# Altium schematic symbol library SamacSys.SchLib: 234 symbols (part 3 of 3)
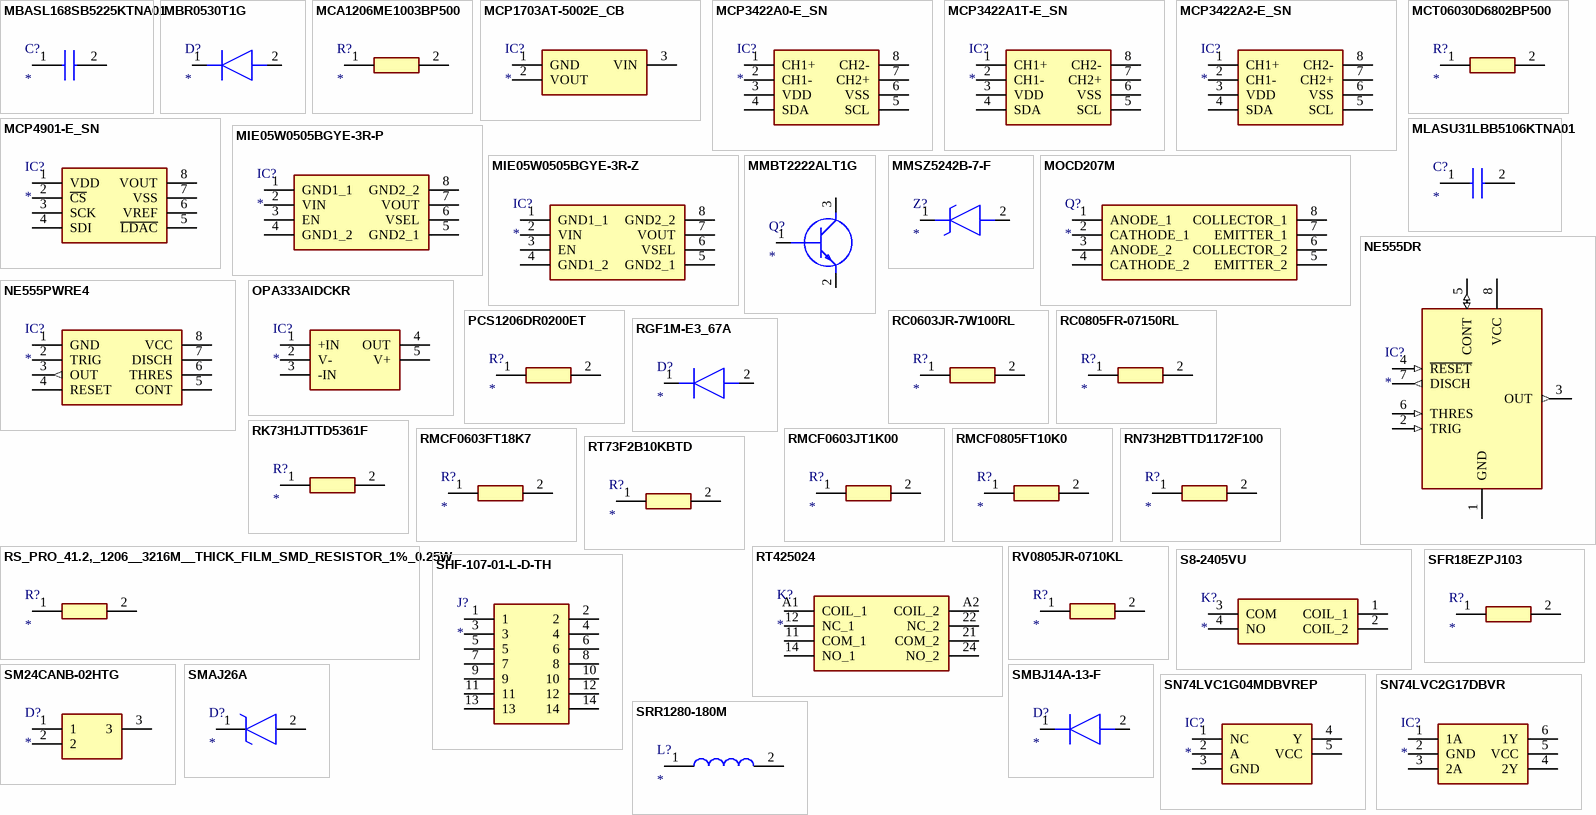
[diagram p7: symbols MBASL168SB5225KTNA01 to SRR1280-180M]

## NE555PWRE4
designator IC?
Integrated Circuit; Manufacturer_Name: Texas Instruments; Manufacturer_Part_Number: NE555PWRE4; Datasheet Link: http://www.ti.com/lit/ds/symlink/ne555.pdf; Height: 1.2mm; Mouser Part Number: 595-NE555PWRE4; Mouser Price/Stock: https://www.mouser.co.uk/ProductDetail/Texas-Instruments/NE555PWRE4?qs=rLYyFdxB%2Fmr6qUodVTnTjw%3D%3D; Arrow Part Number: NE555PWRE4; Arrow Price/Stock: https://www.arrow.com/en/products/ne555pwre4/texas-instruments
footprint SOP65P640X120-8N
pins: 1 GND (power), 2 TRIG, 3 OUT (out), 4 RESET, 5 CONT, 6 THRES, 7 DISCH, 8 VCC (power)

## OPA333AIDCKR
designator IC?
Integrated Circuit; Manufacturer_Name: Texas Instruments; Manufacturer_Part_Number: OPA333AIDCKR; Datasheet Link: http://www.ti.com/lit/ds/symlink/opa333.pdf; Height: 1.1mm; Mouser Part Number: 595-OPA333AIDCKR; Mouser Price/Stock: https://www.mouser.co.uk/ProductDetail/Texas-Instruments/OPA333AIDCKR?qs=7nS3%252BbEUL6sD%252Blxh0%252BShWA%3D%3D; Arrow Part Number: OPA333AIDCKR; Arrow Price/Stock: https://www.arrow.com/en/products/opa333aidckr/texas-instruments?region=nac
footprint SOT65P210X110-5N
pins: 1 +IN, 2 V-, 3 -IN, 4 OUT, 5 V+

## PCS1206DR0200ET
designator R?
Resistor; Manufacturer_Name: Ohmite; Manufacturer_Part_Number: PCS1206DR0200ET; Datasheet Link: https://componentsearchengine.com/Datasheets/1/PCS1206DR0200ET.pdf; Height: 0.684mm; Mouser Part Number: 588-PCS1206DR0200ET; Mouser Price/Stock: https://www.mouser.co.uk/ProductDetail/Ohmite/PCS1206DR0200ET?qs=Zz7%252BYVVL6bHe1REzh6xp%2Fw%3D%3D
footprint RESC3216X68N
pins: 1, 2

## RC0603JR-7W100RL
designator R?
Resistor; Manufacturer_Name: Yageo Group; Manufacturer_Part_Number: RC0603JR-7W100RL; Datasheet Link: http://www.yageo.com/documents/recent/PYu-RC0603_51_RoHS_L_v5.pdf; Height: 0.55mm; Mouser Part Number: 603-RC0603JR-7W100RL; Mouser Price/Stock: https://www.mouser.co.uk/ProductDetail/YAGEO/RC0603JR-7W100RL?qs=tggtontpCXNb6PZs9ghEpg%3D%3D; Arrow Part Number: RC0603JR-7W100RL; Arrow Price/Stock: https://www.arrow.com/en/products/rc0603jr-7w100rl/yageo?region=nac
footprint RESC1608X55N
pins: 1, 2

## RC0805FR-07150RL
designator R?
Resistor; Manufacturer_Name: YAGEO; Manufacturer_Part_Number: RC0805FR-07150RL; Datasheet Link: http://www.yageo.com/documents/recent/PYu-RC_Group_51_RoHS_L_10.pdf; Height: 0.6mm; Mouser Part Number: 603-RC0805FR-07150RL; Mouser Price/Stock: https://www.mouser.co.uk/ProductDetail/Yageo/RC0805FR-07150RL?qs=8Y8p%252BasKcI6SRkoIp3y4Wg%3D%3D; Arrow Part Number: RC0805FR-07150RL; Arrow Price/Stock: https://www.arrow.com/en/products/rc0805fr-07150rl/yageo
footprint RESC2012X60N
pins: 1, 2

## RGF1M-E3_67A
designator D?
Diode; Manufacturer_Name: Vishay; Manufacturer_Part_Number: RGF1M-E3/67A; Datasheet Link: https://www.vishay.com/docs/88697/rgf1.pdf; Height: 3mm; Mouser Part Number: 625-RGF1M-E3; Mouser Price/Stock: https://www.mouser.co.uk/ProductDetail/Vishay-General-Semiconductor/RGF1M-E3-67A?qs=4xyK702%2F%252BQ1dl%252BTCdyIThg%3D%3D; Arrow Part Number: RGF1M-E3/67A; Arrow Price/Stock: https://www.arrow.com/en/products/rgf1m-e367a/vishay?region=nac
footprint DIOM5426X300N
pins: 1 K, 2 A

## RK73H1JTTD5361F
designator R?
Resistor; Manufacturer_Name: KOA Speer; Manufacturer_Part_Number: RK73H1JTTD5361F; Datasheet Link: http://www.koaspeer.com/catimages/Products/RK73-RT/RK73-RT.pdf; Height: 0.55mm; Mouser Part Number: 660-RK73H1JTTD5361F; Mouser Price/Stock: http://www.mouser.com/Search/ProductDetail.aspx?qs=VsVuNjgfZhozLTQBmeIWog%3d%3d
footprint RESC1608X55N
pins: 1, 2

## RMCF0603FT18K7
designator R?
Resistor; Manufacturer_Name: Stackpole Electronics; Manufacturer_Part_Number: RMCF0603FT18K7; Datasheet Link: https://www.seielect.com/Catalog/SEI-RMCF_RMCP.pdf; Height: 0.55mm
footprint RESC1608X55N
pins: 1, 2

## RMCF0603JT1K00
designator R?
Resistor; Manufacturer_Name: Stackpole Electronics; Manufacturer_Part_Number: RMCF0603JT1K00; Datasheet Link: https://www.seielect.com/Catalog/SEI-RMCF_RMCP.pdf; Height: 0.55mm; Mouser Part Number: 708-RMCF0603JT1K00; Mouser Price/Stock: https://www.mouser.co.uk/ProductDetail/SEI-Stackpole/RMCF0603JT1K00?qs=FESYatJ8odK3lrUeqnFxyg%3D%3D; Arrow Part Number: RMCF0603JT1K00; Arrow Price/Stock: https://www.arrow.com/en/products/rmcf0603jt1k00/stackpole-electronics?region=nac
footprint RESC1608X55N
pins: 1, 2

## RMCF0805FT10K0
designator R?
Resistor; Manufacturer_Name: Stackpole Electronics; Manufacturer_Part_Number: RMCF0805FT10K0; Datasheet Link: https://www.seielect.com/catalog/sei-rmcf_rmcp.pdf; Height: 0.65mm; Mouser Part Number: 708-RMCF0805FT10K0; Mouser Price/Stock: https://www.mouser.co.uk/ProductDetail/SEI-Stackpole/RMCF0805FT10K0?qs=IreZ0J%252BReG3LOHc8zdDe6Q%3D%3D; Arrow Part Number: RMCF0805FT10K0; Arrow Price/Stock: https://www.arrow.com/en/products/rmcf0805ft10k0/stackpole-electronics?region=nac
footprint RESC2012X65N
pins: 1, 2

## RN73H2BTTD1172F100
designator R?
Resistor; Manufacturer_Name: KOA Speer; Manufacturer_Part_Number: RN73H2BTTD1172F100; Datasheet Link: https://www.koaspeer.com/pdfs/RN73H.pdf; Height: 0.7mm; Mouser Part Number: 660-RN73H2BT1172F100; Mouser Price/Stock: https://www.mouser.co.uk/ProductDetail/KOA-Speer/RN73H2BTTD1172F100?qs=egkD4cx1ihS0KaGLrT%2FVSQ%3D%3D
footprint RESC3216X70N
pins: 1, 2

## RS_PRO_41.2,_1206__3216M__THICK_FILM_SMD_RESISTOR_1%_0.25W
designator R?
Resistor; Manufacturer_Name: RS Pro; Manufacturer_Part_Number: RS PRO 41.2O; Datasheet Link: https://docs.rs-online.com/28ed/0900766b8157b2d3.pdf; Height: 0.65mm
footprint RESC3116X65N
pins: 1, 2

## RT73F2B10KBTD
designator R?
Resistor; Manufacturer_Name: TE Connectivity; Manufacturer_Part_Number: RT73F2B10KBTD; Datasheet Link: https://www.te.com/commerce/DocumentDelivery/DDEController?Action=showdoc&DocId=Data+Sheet%7F1773450%7FA1%7Fpdf%7FEnglish%7FENG_DS_1773450_A1.pdf%7FCAT-F52-R; Height: 0.7mm
footprint RESC3216X70N
pins: 1, 2

## RT425024
designator K?
Relay or Contactor; Manufacturer_Name: TE Connectivity; Manufacturer_Part_Number: RT425024; Datasheet Link: https://www.te.com/commerce/DocumentDelivery/DDEController?Action=showdoc&DocId=Data+Sheet%7FRT2%7F3%7Fpdf%7FEnglish%7FENG_DS_RT2_3.pdf%7F8-1393243-5; Height: 15.7mm; Mouser Part Number: 655-RT425024; Mouser Price/Stock: https://www.mouser.co.uk/ProductDetail/TE-Connectivity-PB/RT425024?qs=d4LE%252Bqfehai4i5dviTm5mw%3D%3D; Arrow Part Number: RT425024; Arrow Price/Stock: https://www.arrow.com/en/products/rt425024/te-connectivity?region=nac
footprint RT425024
pins: 11 COM_1, 12 NC_1, 14 NO_1, 21 COM_2, 22 NC_2, 24 NO_2, A1 COIL_1, A2 COIL_2

## RV0805JR-0710KL
designator R?
Resistor; Manufacturer_Name: Yageo Group; Manufacturer_Part_Number: RV0805JR-0710KL; Datasheet Link: https://www.mouser.in/new/yageo/yageo-rv-resistors/; Height: 0.6mm
footprint RESC2012X60N
pins: 1, 2

## S8-2405VU
designator K?
Relay or Contactor; Manufacturer_Name: Sensata; Manufacturer_Part_Number: S8-2405VU; Datasheet Link: https://componentsearchengine.com/Datasheets/2/S8-2405VU.pdf; Height: 12mm; Mouser Part Number: 285-S8-2405VU; Mouser Price/Stock: https://www.mouser.co.uk/ProductDetail/Cynergy3/S8-2405VU?qs=OlC7AqGiEDkSZm1DfbwcWw%3D%3D
footprint S82405VU
pins: 1 COIL_1, 2 COIL_2, 3 COM, 4 NO

## SFR18EZPJ103
designator R?
Resistor; Manufacturer_Name: ROHM Semiconductor; Manufacturer_Part_Number: SFR18EZPJ103; Datasheet Link: https://fscdn.rohm.com/en/products/databook/datasheet/passive/resistor/chip_resistor/sfr-e.pdf; Height: 0.65mm
footprint RESC3216X65N
pins: 1, 2

## SHF-107-01-L-D-TH
designator J?
Connector; Manufacturer_Name: SAMTEC; Manufacturer_Part_Number: SHF-107-01-L-D-TH; Datasheet Link: https://componentsearchengine.com/Datasheets/1/SHF-107-01-L-D-TH.pdf; Height: 5.33mm; Mouser Part Number: 200-SHF10701LDTH; Mouser Price/Stock: https://www.mouser.co.uk/ProductDetail/Samtec/SHF-107-01-L-D-TH?qs=%252BZP6%2F%252BtExtDrbekpOnhfag%3D%3D; Arrow Part Number: SHF-107-01-L-D-TH; Arrow Price/Stock: https://www.arrow.com/en/products/shf-107-01-l-d-th/samtec?utm_currency=USD&region=nac
footprint SHF10701LDTH
pins: 1, 2, 3, 4, 5, 6, 7, 8, 9, 10, 11, 12, 13, 14

## SM24CANB-02HTG
designator D?
TVS Diode (Bi-directional); Manufacturer_Name: LITTELFUSE; Manufacturer_Part_Number: SM24CANB-02HTG; Datasheet Link: https://www.littelfuse.com/products/overvoltage-protection/tvs-diode-arrays/general-purpose/sm24canb/sm24canb-02htg; Height: 1.12mm; Mouser Part Number: 576-SM24CANB-02HTG; Mouser Price/Stock: https://www.mouser.co.uk/ProductDetail/Littelfuse/SM24CANB-02HTG?qs=bWsWnctWn1wbKmCYlcUmHw%3D%3D; Arrow Part Number: SM24CANB-02HTG; Arrow Price/Stock: https://www.arrow.com/en/products/sm24canb-02htg/littelfuse?utm_currency=USD&region=nac
footprint SM24CANB02HTG
pins: 1, 2, 3

## SMAJ26A
designator D?
TVS Diode (Uni-directional); Manufacturer_Name: LITTELFUSE; Manufacturer_Part_Number: SMAJ26A; Datasheet Link: https://www.littelfuse.com/~/media/electronics/datasheets/tvs_diodes/littelfuse_tvs_diode_smaj_datasheet.pdf.pdf; Height: 2.29mm; Mouser Part Number: 576-SMAJ26A; Mouser Price/Stock: https://www.mouser.co.uk/ProductDetail/Littelfuse/SMAJ26A?qs=HR2RnyOI4E5UFOxZR4oQ3w%3D%3D; Arrow Part Number: SMAJ26A; Arrow Price/Stock: https://www.arrow.com/en/products/smaj26a/littelfuse?region=nac
footprint DIOM5026X229N
pins: 1 K, 2 A

## SMBJ14A-13-F
designator D?
Diode; Manufacturer_Name: Diodes Incorporated; Manufacturer_Part_Number: SMBJ14A-13-F; Datasheet Link: https://componentsearchengine.com/Datasheets/1/SMBJ14A-13-F.pdf; Height: 2.5mm; Mouser Part Number: 621-SMBJ14A-13-F; Mouser Price/Stock: https://www.mouser.co.uk/ProductDetail/Diodes-Incorporated/SMBJ14A-13-F?qs=gaDBXWSqsDA8qom4X6x%252B1g%3D%3D; Arrow Part Number: SMBJ14A-13-F; Arrow Price/Stock: https://www.arrow.com/en/products/smbj14a-13-f/diodes-incorporated?region=nac
footprint DIOM5336X250N
pins: 1 K, 2 A

## SN74LVC1G04MDBVREP
designator IC?
Integrated Circuit; Manufacturer_Name: Texas Instruments; Manufacturer_Part_Number: SN74LVC1G04MDBVREP; Datasheet Link: http://www.ti.com/lit/gpn/sn74lvc1g04-ep; Height: 1.45mm; Mouser Part Number: 595-SN74LVC04MDBVREP; Mouser Price/Stock: https://www.mouser.co.uk/ProductDetail/Texas-Instruments/SN74LVC1G04MDBVREP?qs=l4wu3mKjyflWQOlEvZuvmw%3D%3D; Arrow Part Number: SN74LVC1G04MDBVREP; Arrow Price/Stock: https://www.arrow.com/en/products/sn74lvc1g04mdbvrep/texas-instruments?utm_currency=USD&region=nac
footprint SOT95P280X145-5N
pins: 1 NC, 2 A, 3 GND, 4 Y, 5 VCC

## SN74LVC2G17DBVR
designator IC?
Integrated Circuit; Manufacturer_Name: Texas Instruments; Manufacturer_Part_Number: SN74LVC2G17DBVR; Datasheet Link: http://www.ti.com/lit/gpn/sn74lvc2g17; Height: 1.45mm; Mouser Part Number: 595-SN74LVC2G17DBVR; Mouser Price/Stock: https://www.mouser.co.uk/ProductDetail/Texas-Instruments/SN74LVC2G17DBVR?qs=X1HXWTtiZ0RnstCufGEJxQ%3D%3D; Arrow Part Number: SN74LVC2G17DBVR; Arrow Price/Stock: https://www.arrow.com/en/products/sn74lvc2g17dbvr/texas-instruments?utm_currency=USD&region=nac
footprint SOT95P280X145-6N
pins: 1 1A, 2 GND, 3 2A, 4 2Y, 5 VCC, 6 1Y

## SRR1280-180M
designator L?
Inductor; Manufacturer_Name: Bourns; Manufacturer_Part_Number: SRR1280-180M; Datasheet Link: https://www.bourns.com/docs/Product-Datasheets/SRR1280.pdf; Height: 8mm; Mouser Part Number: 652-SRR1280-180M; Mouser Price/Stock: https://www.mouser.co.uk/ProductDetail/Bourns/SRR1280-180M?qs=brMhP%2FMjUfeRcSm%2FRxSrFQ%3D%3D; Arrow Part Number: SRR1280-180M; Arrow Price/Stock: https://www.arrow.com/en/products/srr1280-180m/bourns?region=nac
footprint INDPM125125X800N
pins: 1, 2

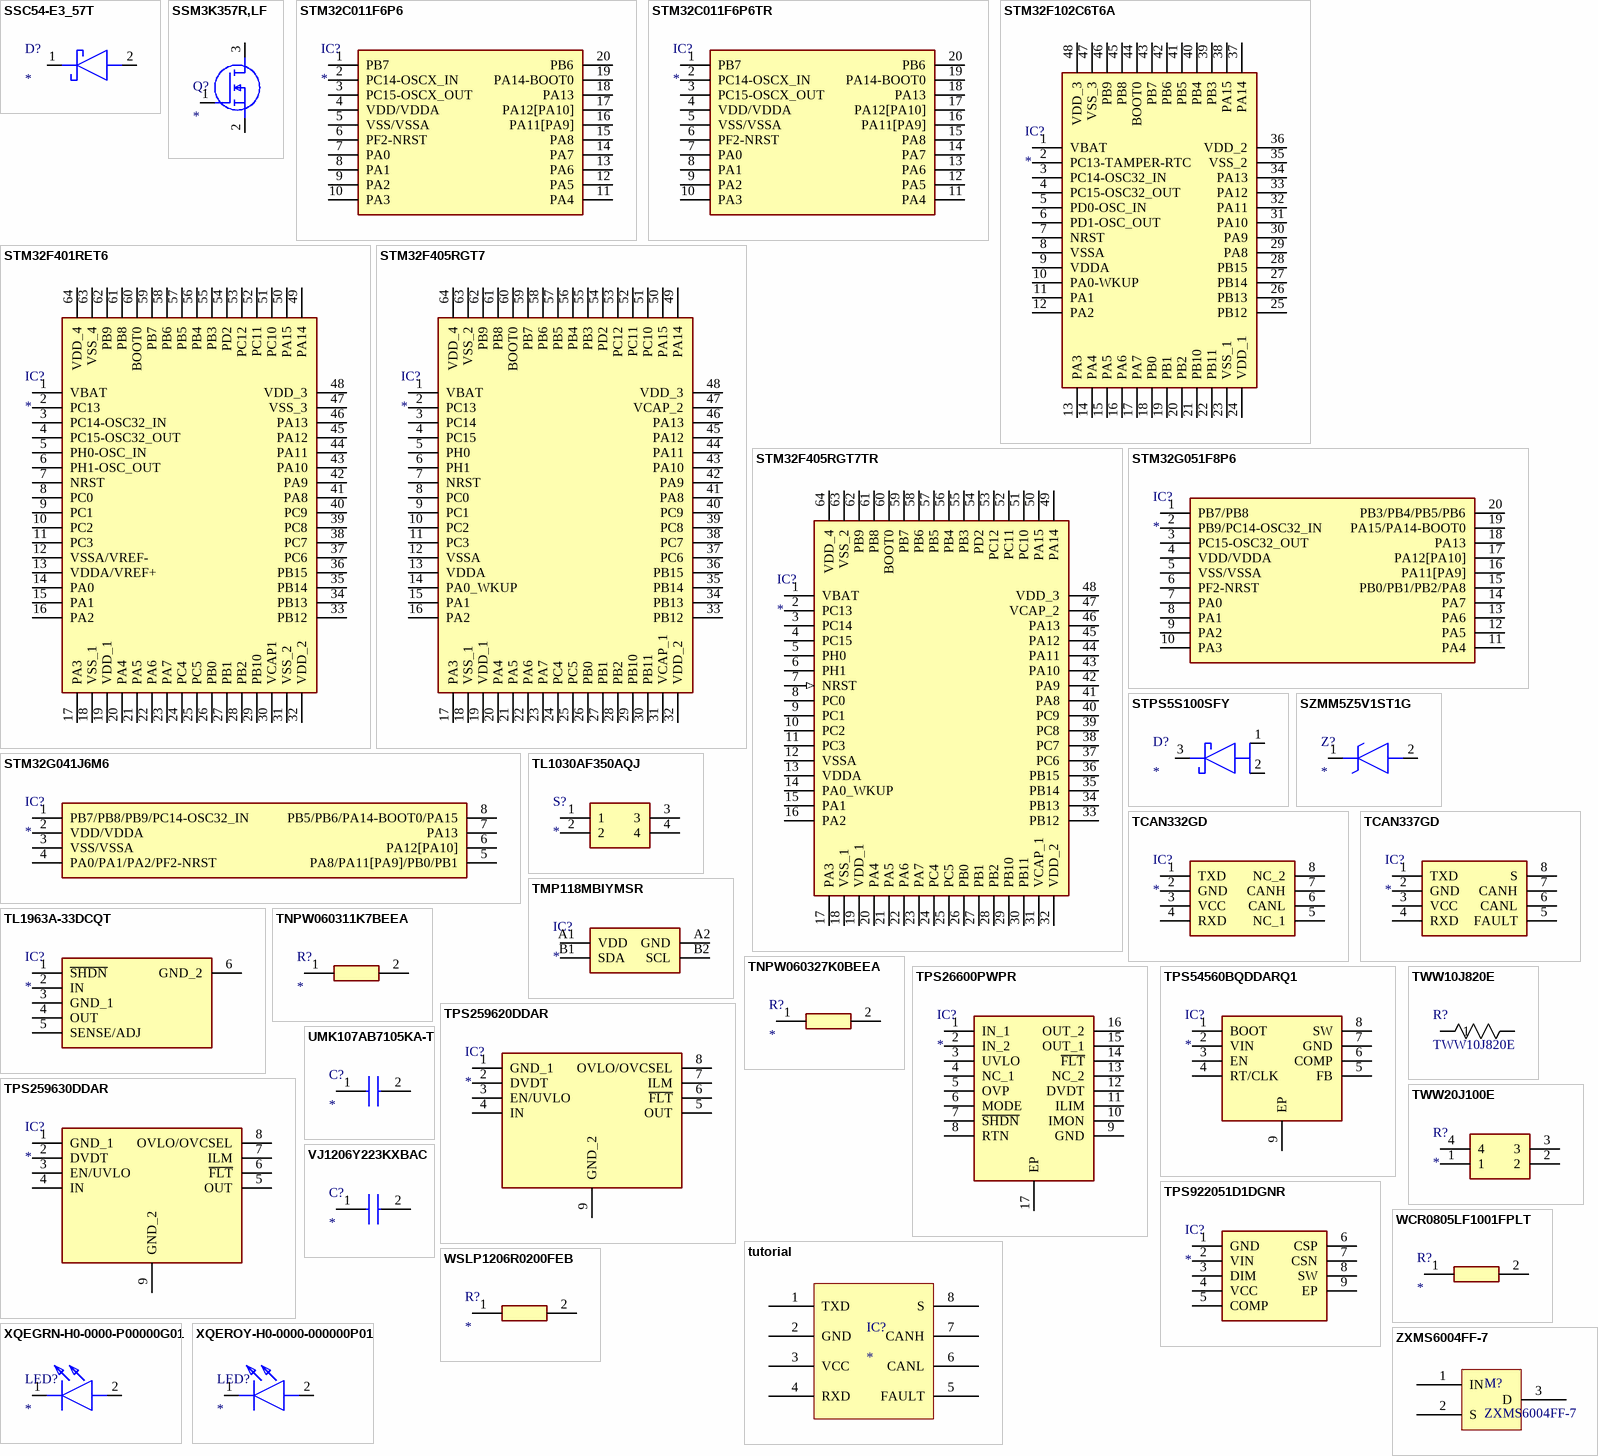
[diagram p5: symbols SSC54-E3_57T to ZXMS6004FF-7]

## SSC54-E3_57T
designator D?
Schottky Diode; Manufacturer_Name: Vishay; Manufacturer_Part_Number: SSC54-E3/57T; Datasheet Link: https://www.vishay.com/docs/88885/ssc53l.pdf; Height: 2.62mm; Mouser Part Number: 625-SSC54-E3; Mouser Price/Stock: https://www.mouser.co.uk/ProductDetail/Vishay-General-Semiconductor/SSC54-E3-57T?qs=x2jpVgRnAtMhElpsncdW2g%3D%3D; Arrow Part Number: SSC54-E3/57T; Arrow Price/Stock: https://www.arrow.com/en/products/ssc54-e357t/vishay?utm_currency=USD&region=nac
footprint DIOM7959X262N
pins: 1 K, 2 A

## SSM3K357R,LF
designator Q?
MOSFET (N-Channel); Manufacturer_Name: Toshiba; Manufacturer_Part_Number: SSM3K357R,LF; Datasheet Link: https://toshiba.semicon-storage.com/info/docget.jsp?did=59207&prodName=SSM3K357R; Height: 0.88mm; Mouser Part Number: 757-SSM3K357RLF; Mouser Price/Stock: https://www.mouser.co.uk/ProductDetail/Toshiba/SSM3K357RLF?qs=F5EMLAvA7ICLn4Y138U4bA%3D%3D; Arrow Part Number: SSM3K357R,LF; Arrow Price/Stock: https://www.arrow.com/en/products/ssm3k357rlf/toshiba?utm_currency=USD&region=nac
footprint SOTFL95P240X88-3N
pins: 1 G, 2 S, 3 D

## STM32C011F6P6
designator IC?
Integrated Circuit; Manufacturer_Name: STMicroelectronics; Manufacturer_Part_Number: STM32C011F6P6; Datasheet Link: https://www.st.com/resource/en/datasheet/stm32c011d6.pdf; Height: 1.2mm; Mouser Part Number: 511-STM32C011F6P6; Mouser Price/Stock: https://www.mouser.co.uk/ProductDetail/STMicroelectronics/STM32C011F6P6?qs=IPgv5n7u5Qb445hYVpG9pg%3D%3D
footprint SOP65P640X120-20N
pins: 1 PB7, 2 PC14-OSCX_IN, 3 PC15-OSCX_OUT, 4 VDD/VDDA, 5 VSS/VSSA, 6 PF2-NRST, 7 PA0, 8 PA1, 9 PA2, 10 PA3, 11 PA4, 12 PA5, 13 PA6, 14 PA7, 15 PA8, 16 PA11[PA9], 17 PA12[PA10], 18 PA13, 19 PA14-BOOT0, 20 PB6

## STM32C011F6P6TR
designator IC?
Integrated Circuit; Manufacturer_Name: STMicroelectronics; Manufacturer_Part_Number: STM32C011F6P6TR; Datasheet Link: https://www.st.com/resource/en/datasheet/stm32c011d6.pdf; Height: 1.2mm; Mouser Part Number: 511-STM32C011F6P6TR; Mouser Price/Stock: https://www.mouser.co.uk/ProductDetail/STMicroelectronics/STM32C011F6P6TR?qs=rQFj71Wb1eUlrPzOdA5ImQ%3D%3D; Arrow Part Number: STM32C011F6P6TR; Arrow Price/Stock: https://www.arrow.com/en/products/stm32c011f6p6tr/stmicroelectronics?utm_currency=USD&region=nac
footprint SOP65P640X120-20N
pins: 1 PB7, 2 PC14-OSCX_IN, 3 PC15-OSCX_OUT, 4 VDD/VDDA, 5 VSS/VSSA, 6 PF2-NRST, 7 PA0, 8 PA1, 9 PA2, 10 PA3, 11 PA4, 12 PA5, 13 PA6, 14 PA7, 15 PA8, 16 PA11[PA9], 17 PA12[PA10], 18 PA13, 19 PA14-BOOT0, 20 PB6

## STM32F102C6T6A
designator IC?
Integrated Circuit; Manufacturer_Name: STMicroelectronics; Manufacturer_Part_Number: STM32F102C6T6A; Datasheet Link: http://www.st.com/st-web-ui/static/active/en/resource/technical/document/datasheet/CD00210833.pdf; Height: 1.6mm; Mouser Part Number: 511-STM32F102C6T6A; Mouser Price/Stock: https://www.mouser.co.uk/ProductDetail/STMicroelectronics/STM32F102C6T6A?qs=GIQXYiEeHGBdcROQExeEyQ%3D%3D; Arrow Part Number: STM32F102C6T6A; Arrow Price/Stock: https://www.arrow.com/en/products/stm32f102c6t6a/stmicroelectronics?utm_currency=USD&region=nac
footprint QFP50P900X900X160-48N
pins: 1 VBAT, 2 PC13-TAMPER-RTC, 3 PC14-OSC32_IN, 4 PC15-OSC32_OUT, 5 PD0-OSC_IN, 6 PD1-OSC_OUT, 7 NRST, 8 VSSA, 9 VDDA, 10 PA0-WKUP, 11 PA1, 12 PA2, 13 PA3, 14 PA4, 15 PA5, 16 PA6, 17 PA7, 18 PB0, 19 PB1, 20 PB2, 21 PB10, 22 PB11, 23 VSS_1, 24 VDD_1, 25 PB12, 26 PB13, 27 PB14, 28 PB15, 29 PA8, 30 PA9, 31 PA10, 32 PA11, 33 PA12, 34 PA13, 35 VSS_2, 36 VDD_2, 37 PA14, 38 PA15, 39 PB3, 40 PB4, 41 PB5, 42 PB6, 43 PB7, 44 BOOT0, 45 PB8, 46 PB9, 47 VSS_3, 48 VDD_3

## STM32F401RET6
designator IC?
Integrated Circuit; Manufacturer_Name: STMicroelectronics; Manufacturer_Part_Number: STM32F401RET6; Datasheet Link: http://www.st.com/st-web-ui/static/active/en/resource/technical/document/datasheet/DM00102166.pdf; Height: 1.6mm; Mouser Part Number: 511-STM32F401RET6; Mouser Price/Stock: https://www.mouser.co.uk/ProductDetail/STMicroelectronics/STM32F401RET6?qs=s5SkPsIz108eLldhTu8INg%3D%3D; Arrow Part Number: STM32F401RET6; Arrow Price/Stock: https://www.arrow.com/en/products/stm32f401ret6/stmicroelectronics?utm_currency=USD&region=nac
footprint QFP50P1200X1200X160-64N
pins: 1 VBAT, 2 PC13, 3 PC14-OSC32_IN, 4 PC15-OSC32_OUT, 5 PH0-OSC_IN, 6 PH1-OSC_OUT, 7 NRST, 8 PC0, 9 PC1, 10 PC2, 11 PC3, 12 VSSA/VREF-, 13 VDDA/VREF+, 14 PA0, 15 PA1, 16 PA2, 17 PA3, 18 VSS_1, 19 VDD_1, 20 PA4, 21 PA5, 22 PA6, 23 PA7, 24 PC4, 25 PC5, 26 PB0, 27 PB1, 28 PB2, 29 PB10, 30 VCAP1, 31 VSS_2, 32 VDD_2, 33 PB12, 34 PB13, 35 PB14, 36 PB15, 37 PC6, 38 PC7, 39 PC8, 40 PC9, 41 PA8, 42 PA9, 43 PA10, 44 PA11, 45 PA12, 46 PA13, 47 VSS_3, 48 VDD_3, 49 PA14, 50 PA15, 51 PC10, 52 PC11, 53 PC12, 54 PD2, 55 PB3, 56 PB4, 57 PB5, 58 PB6, 59 PB7, 60 BOOT0, 61 PB8, 62 PB9, 63 VSS_4, 64 VDD_4

## STM32F405RGT7
designator IC?
Integrated Circuit; Manufacturer_Name: STMicroelectronics; Manufacturer_Part_Number: STM32F405RGT7; Datasheet Link: https://www.st.com/content/ccc/resource/technical/document/datasheet/ef/92/76/6d/bb/c2/4f/f7/DM00037051.pdf/files/DM00037051.pdf/jcr:content/translations/en.DM00037051.pdf; Height: 1.6mm; Mouser Part Number: 511-STM32F405RGT7; Mouser Price/Stock: https://www.mouser.co.uk/ProductDetail/STMicroelectronics/STM32F405RGT7?qs=DqCdCwOw4%2F6rAq3yUvY8rA%3D%3D; Arrow Part Number: STM32F405RGT7; Arrow Price/Stock: https://www.arrow.com/en/products/stm32f405rgt7/stmicroelectronics?utm_currency=USD&region=nac
footprint QFP50P1200X1200X160-64N
pins: 1 VBAT, 2 PC13, 3 PC14, 4 PC15, 5 PH0, 6 PH1, 7 NRST, 8 PC0, 9 PC1, 10 PC2, 11 PC3, 12 VSSA, 13 VDDA, 14 PA0_WKUP, 15 PA1, 16 PA2, 17 PA3, 18 VSS_1, 19 VDD_1, 20 PA4, 21 PA5, 22 PA6, 23 PA7, 24 PC4, 25 PC5, 26 PB0, 27 PB1, 28 PB2, 29 PB10, 30 PB11, 31 VCAP_1, 32 VDD_2, 33 PB12, 34 PB13, 35 PB14, 36 PB15, 37 PC6, 38 PC7, 39 PC8, 40 PC9, 41 PA8, 42 PA9, 43 PA10, 44 PA11, 45 PA12, 46 PA13, 47 VCAP_2, 48 VDD_3, 49 PA14, 50 PA15, 51 PC10, 52 PC11, 53 PC12, 54 PD2, 55 PB3, 56 PB4, 57 PB5, 58 PB6, 59 PB7, 60 BOOT0, 61 PB8, 62 PB9, 63 VSS_2, 64 VDD_4

## STM32F405RGT7TR
designator IC?
Integrated Circuit; Manufacturer_Name: STMicroelectronics; Manufacturer_Part_Number: STM32F405RGT7TR; Datasheet Link: http://www.st.com/web/en/resource/technical/document/datasheet/DM00037051.pdf; Height: 1.6mm; Mouser Part Number: 511-STM32F405RGT7TR; Mouser Price/Stock: https://www.mouser.co.uk/ProductDetail/STMicroelectronics/STM32F405RGT7TR?qs=4ccVDqXDOrlkg5BcAUdo%252BA%3D%3D; Arrow Part Number: STM32F405RGT7TR; Arrow Price/Stock: https://www.arrow.com/en/products/stm32f405rgt7tr/stmicroelectronics?utm_currency=USD&region=nac
footprint QFP50P1200X1200X160-64N
pins: 1 VBAT, 2 PC13, 3 PC14, 4 PC15, 5 PH0, 6 PH1, 7 NRST (in), 8 PC0, 9 PC1, 10 PC2, 11 PC3, 12 VSSA (power), 13 VDDA (power), 14 PA0_WKUP, 15 PA1, 16 PA2, 17 PA3, 18 VSS_1 (power), 19 VDD_1 (power), 20 PA4, 21 PA5, 22 PA6, 23 PA7, 24 PC4, 25 PC5, 26 PB0, 27 PB1, 28 PB2, 29 PB10, 30 PB11, 31 VCAP_1, 32 VDD_2 (power), 33 PB12, 34 PB13, 35 PB14, 36 PB15, 37 PC6, 38 PC7, 39 PC8, 40 PC9, 41 PA8, 42 PA9, 43 PA10, 44 PA11, 45 PA12, 46 PA13, 47 VCAP_2, 48 VDD_3 (power), 49 PA14, 50 PA15, 51 PC10, 52 PC11, 53 PC12, 54 PD2, 55 PB3, 56 PB4, 57 PB5, 58 PB6, 59 PB7, 60 BOOT0, 61 PB8, 62 PB9, 63 VSS_2 (power), 64 VDD_4 (power)

## STM32G041J6M6
designator IC?
Integrated Circuit; Manufacturer_Name: STMicroelectronics; Manufacturer_Part_Number: STM32G041J6M6; Datasheet Link: https://www.st.com/resource/en/datasheet/stm32g041c6.pdf; Height: 1.75mm; Mouser Part Number: 511-STM32G041J6M6; Mouser Price/Stock: https://www.mouser.co.uk/ProductDetail/STMicroelectronics/STM32G041J6M6?qs=BJlw7L4Cy7%2Folw%252Bp1vxi6Q%3D%3D
footprint SOIC127P600X175-8N
pins: 1 PB7/PB8/PB9/PC14-OSC32_IN, 2 VDD/VDDA, 3 VSS/VSSA, 4 PA0/PA1/PA2/PF2-NRST, 5 PA8/PA11[PA9]/PB0/PB1, 6 PA12[PA10], 7 PA13, 8 PB5/PB6/PA14-BOOT0/PA15

## STM32G051F8P6
designator IC?
Integrated Circuit; Manufacturer_Name: STMicroelectronics; Manufacturer_Part_Number: STM32G051F8P6; Datasheet Link: https://www.st.com/resource/en/datasheet/stm32g051c6.pdf; Height: 1.2mm; Mouser Part Number: 511-STM32G051F8P6; Mouser Price/Stock: https://www.mouser.co.uk/ProductDetail/STMicroelectronics/STM32G051F8P6?qs=CiayqK2gdcKtYfwNuLEYXQ%3D%3D; Arrow Part Number: STM32G051F8P6; Arrow Price/Stock: https://www.arrow.com/en/products/stm32g051f8p6/stmicroelectronics?region=nac
footprint SOP65P640X120-20N
pins: 1 PB7/PB8, 2 PB9/PC14-OSC32_IN, 3 PC15-OSC32_OUT, 4 VDD/VDDA, 5 VSS/VSSA, 6 PF2-NRST, 7 PA0, 8 PA1, 9 PA2, 10 PA3, 11 PA4, 12 PA5, 13 PA6, 14 PA7, 15 PB0/PB1/PB2/PA8, 16 PA11[PA9], 17 PA12[PA10], 18 PA13, 19 PA15/PA14-BOOT0, 20 PB3/PB4/PB5/PB6

## STPS5S100SFY
designator D?
Schottky Diode with Dual Anode; Manufacturer_Name: STMicroelectronics; Manufacturer_Part_Number: STPS5S100SFY; Datasheet Link: https://www.st.com/resource/en/datasheet/stps5s100sfy.pdf; Height: 1.2mm; Mouser Part Number: 511-STPS5S100SFY; Mouser Price/Stock: https://www.mouser.co.uk/ProductDetail/STMicroelectronics/STPS5S100SFY?qs=IS%252B4QmGtzzqXirfVtJ7lSA%3D%3D
footprint STPS10L40CSF
pins: 1 A1, 2 A2, 3 K

## SZMM5Z5V1ST1G
designator Z?
Zener Diode; Manufacturer_Name: onsemi; Manufacturer_Part_Number: SZMM5Z5V1ST1G; Datasheet Link: https://www.onsemi.com/pub/Collateral/MM5Z2V4ST1-D.PDF; Height: 0.7mm; Mouser Part Number: 863-SZMM5Z5V1ST1G; Mouser Price/Stock: https://www.mouser.co.uk/ProductDetail/onsemi/SZMM5Z5V1ST1G?qs=dbuNSGnowt312M5LqOxX9g%3D%3D; Arrow Part Number: SZMM5Z5V1ST1G; Arrow Price/Stock: https://www.arrow.com/en/products/szmm5z5v1st1g/on-semiconductor?region=nac
footprint SODFL1608X70N
pins: 1 K, 2 A

## TCAN332GD
designator IC?
Integrated Circuit; Manufacturer_Name: Texas Instruments; Manufacturer_Part_Number: TCAN332GD; Datasheet Link: http://www.ti.com/lit/gpn/tcan332g; Height: 1.75mm; Mouser Part Number: 595-TCAN332GD; Mouser Price/Stock: https://www.mouser.co.uk/ProductDetail/Texas-Instruments/TCAN332GD?qs=n%252BTO0c4TDSYoXh39%2FoLTXQ%3D%3D; Arrow Part Number: TCAN332GD; Arrow Price/Stock: https://www.arrow.com/en/products/tcan332gd/texas-instruments?region=europe
footprint SOIC127P600X175-8N
pins: 1 TXD, 2 GND, 3 VCC, 4 RXD, 5 NC_1, 6 CANL, 7 CANH, 8 NC_2

## TCAN337GD
designator IC?
Integrated Circuit; Manufacturer_Name: Texas Instruments; Manufacturer_Part_Number: TCAN337GD; Datasheet Link: https://www.arrow.com/en/products/tcan337gd/texas-instruments; Height: 1.75mm; Mouser Part Number: 595-TCAN337GD; Mouser Price/Stock: https://www.mouser.co.uk/ProductDetail/Texas-Instruments/TCAN337GD?qs=gMfM3zrbS4qmjQESf%252BTgJw%3D%3D; Arrow Part Number: TCAN337GD; Arrow Price/Stock: https://www.arrow.com/en/products/tcan337gd/texas-instruments?region=europe
footprint SOIC127P600X175-8N
pins: 1 TXD, 2 GND, 3 VCC, 4 RXD, 5 FAULT, 6 CANL, 7 CANH, 8 S

## TL1030AF350AQJ
designator S?
Switch; Manufacturer_Name: E-Switch; Manufacturer_Part_Number: TL1030AF350AQJ; Datasheet Link: https://configured-product-images.s3.amazonaws.com/2D/specs/TL1030AF350AQJ.pdf; Height: 1.95mm; Mouser Part Number: 612-TL1030AF350AQJ; Mouser Price/Stock: https://www.mouser.co.uk/ProductDetail/E-Switch/TL1030AF350AQJ?qs=VVKQmw408U%2FgalG8VZqjEg%3D%3D
footprint TL1030AF350AQJ
pins: 1, 2, 3, 4

## TL1963A-33DCQT
designator IC?
Integrated Circuit; Manufacturer_Name: Texas Instruments; Manufacturer_Part_Number: TL1963A-33DCQT; Datasheet Link: http://www.ti.com/lit/gpn/TL1963A; Height: 1.8mm; Mouser Part Number: 595-TL1963A-33DCQT; Mouser Price/Stock: https://www.mouser.co.uk/ProductDetail/Texas-Instruments/TL1963A-33DCQT?qs=g0HfZ8wh75AyKD2vs560PQ%3D%3D; Arrow Part Number: TL1963A-33DCQT; Arrow Price/Stock: https://www.arrow.com/en/products/tl1963a-33dcqt/texas-instruments?utm_currency=USD&region=nac
footprint SOT127P706X180-6N
pins: 1 ~{SHDN}, 2 IN, 3 GND_1, 4 OUT, 5 SENSE/ADJ, 6 GND_2

## TMP118MBIYMSR
designator IC?
Integrated Circuit; Manufacturer_Name: Texas Instruments; Manufacturer_Part_Number: TMP118MBIYMSR; Datasheet Link: https://www.ti.com/lit/ds/symlink/tmp118.pdf?ts=1739966026982&ref_url=https%253A%252F%252Fwww.google.com%252F; Height: 0.24mm; Mouser Part Number: 595-TMP118MBIYMSR; Mouser Price/Stock: https://www.mouser.co.uk/ProductDetail/Texas-Instruments/TMP118MBIYMSR?qs=7%2F6SraaimPTyz3eqk0NPFw%3D%3D; Arrow Part Number: TMP118MBIYMSR; Arrow Price/Stock: https://www.arrow.com/en/products/tmp118mbiymsr/texas-instruments?utm_currency=USD&region=nac
footprint TMP118MBIYMSR
pins: A1 VDD, A2 GND, B1 SDA, B2 SCL

## TNPW060311K7BEEA
designator R?
Resistor; Manufacturer_Name: Vishay; Manufacturer_Part_Number: TNPW060311K7BEEA; Datasheet Link: https://componentsearchengine.com/Datasheets/1/TNPW060311K7BEEA.pdf; Height: 0.55mm; Mouser Part Number: 71-TNPW060311K7BEEA; Mouser Price/Stock: https://www.mouser.co.uk/ProductDetail/Vishay-Dale/TNPW060311K7BEEA?qs=ixLl9tGHk8sqv6nzL7A%252BsQ%3D%3D
footprint CAPC1608X55N
pins: 1, 2

## TNPW060327K0BEEA
designator R?
Resistor; Manufacturer_Name: Vishay; Manufacturer_Part_Number: TNPW060327K0BEEA; Datasheet Link: https://componentsearchengine.com/Datasheets/1/TNPW060327K0BEEA.pdf; Height: 0.55mm; Mouser Part Number: 71-TNPW060327K0BEEA; Mouser Price/Stock: https://www.mouser.co.uk/ProductDetail/Vishay-Dale/TNPW060327K0BEEA?qs=rhzOH%252BTaZWuJVeAMpnOOjQ%3D%3D; Arrow Part Number: TNPW060327K0BEEA; Arrow Price/Stock: https://www.arrow.com/en/products/tnpw060327k0beea/vishay
footprint RESC1608X55N
pins: 1, 2

## TPS26600PWPR
designator IC?
Integrated Circuit; Manufacturer_Name: Texas Instruments; Manufacturer_Part_Number: TPS26600PWPR; Datasheet Link: http://www.ti.com/lit/gpn/tps2660; Height: 1.2mm; Mouser Part Number: 595-TPS26600PWPR; Mouser Price/Stock: https://www.mouser.co.uk/ProductDetail/Texas-Instruments/TPS26600PWPR?qs=Bho%2FbeBaDExFVQBFO8fB%2FQ%3D%3D; Arrow Part Number: TPS26600PWPR; Arrow Price/Stock: https://www.arrow.com/en/products/tps26600pwpr/texas-instruments?region=nac
footprint SOP65P640X120-17N
pins: 1 IN_1, 2 IN_2, 3 UVLO, 4 NC_1, 5 OVP, 6 MODE, 7 ~{SHDN}, 8 RTN, 9 GND, 10 IMON, 11 ILIM, 12 DVDT, 13 NC_2, 14 ~{FLT}, 15 OUT_1, 16 OUT_2, 17 EP

## TPS54560BQDDARQ1
designator IC?
Integrated Circuit; Manufacturer_Name: Texas Instruments; Manufacturer_Part_Number: TPS54560BQDDARQ1; Datasheet Link: http://www.ti.com/lit/gpn/tps54560b-q1; Height: 1.7mm; Mouser Part Number: 595-TPS54560BQDDARQ1; Mouser Price/Stock: https://www.mouser.co.uk/ProductDetail/Texas-Instruments/TPS54560BQDDARQ1?qs=Mv7BduZupUi0AsDfghsxzg%3D%3D; Arrow Part Number: TPS54560BQDDARQ1; Arrow Price/Stock: https://www.arrow.com/en/products/tps54560bqddarq1/texas-instruments?utm_currency=USD&region=nac
footprint SOIC127P600X170-9N
pins: 1 BOOT, 2 VIN, 3 EN, 4 RT/CLK, 5 FB, 6 COMP, 7 GND, 8 SW, 9 EP

## TPS259620DDAR
designator IC?
Integrated Circuit; Manufacturer_Name: Texas Instruments; Manufacturer_Part_Number: TPS259620DDAR; Datasheet Link: https://www.ti.com/lit/gpn/TPS2596; Height: 1.7mm; Mouser Part Number: 595-TPS259620DDAR; Mouser Price/Stock: https://www.mouser.co.uk/ProductDetail/Texas-Instruments/TPS259620DDAR?qs=XeJtXLiO41RogCpRV1l%252BSg%3D%3D; Arrow Part Number: TPS259620DDAR; Arrow Price/Stock: https://www.arrow.com/en/products/tps259620ddar/texas-instruments
footprint SOIC127P600X170-9N
pins: 1 GND_1, 2 DVDT, 3 EN/UVLO, 4 IN, 5 OUT, 6 ~{FLT}, 7 ILM, 8 OVLO/OVCSEL, 9 GND_2

## TPS259630DDAR
designator IC?
Integrated Circuit; Manufacturer_Name: Texas Instruments; Manufacturer_Part_Number: TPS259630DDAR; Datasheet Link: https://www.ti.com/lit/gpn/TPS2596; Height: 1.7mm; Mouser Part Number: 595-TPS259630DDAR; Mouser Price/Stock: https://www.mouser.co.uk/ProductDetail/Texas-Instruments/TPS259630DDAR?qs=T3oQrply3y%252BCA0rOFESTyA%3D%3D; Arrow Part Number: TPS259630DDAR; Arrow Price/Stock: https://www.arrow.com/en/products/tps259630ddar/texas-instruments
footprint SOIC127P600X170-9N
pins: 1 GND_1, 2 DVDT, 3 EN/UVLO, 4 IN, 5 OUT, 6 ~{FLT}, 7 ILM, 8 OVLO/OVCSEL, 9 GND_2

## TPS922051D1DGNR
designator IC?
Integrated Circuit; Manufacturer_Name: Texas Instruments; Manufacturer_Part_Number: TPS922051D1DGNR; Datasheet Link: https://www.ti.com/lit/gpn/tps922051; Height: 1.1mm; Arrow Part Number: TPS922051D1DGNR; Arrow Price/Stock: https://www.arrow.com/en/products/tps922051d1dgnr/texas-instruments.html?utm_currency=USD&region=nac
footprint TPS922051D1DGNR
pins: 1 GND, 2 VIN, 3 DIM, 4 VCC, 5 COMP, 6 CSP, 7 CSN, 8 SW, 9 EP

## tutorial
designator IC?
footprint SOIC127P600X175-8N
pins: 1 TXD, 2 GND, 3 VCC, 4 RXD, 5 FAULT, 6 CANL, 7 CANH, 8 S

## TWW10J820E
designator R?
No Description Available; Manufacturer_Name: Ohmite; Copyright: Copyright (C) 2025 Ultra Librarian. All rights reserved.; Manufacturer_Part_Number: TWW10J820E
footprint RES_TWM10_OHM
pins: 1, 2

## TWW20J100E
designator R?
Resistor; Manufacturer_Name: Ohmite; Manufacturer_Part_Number: TWW20J100E; Datasheet Link: https://www.mouser.in/datasheet/2/303/res_tww_twm-1228653.pdf; Height: 46mm; Mouser Part Number: 588-TWW20J100E; Mouser Price/Stock: https://www.mouser.co.uk/ProductDetail/Ohmite/TWW20J100E?qs=PzGy0jfpSMsE3rbWfgqD2A%3D%3D
footprint TWW20J100E
pins: 1, 2, 3, 4

## UMK107AB7105KA-T
designator C?
Capacitor; Manufacturer_Name: TAIYO YUDEN; Manufacturer_Part_Number: UMK107AB7105KA-T; Datasheet Link: https://ds.yuden.co.jp/TYCOMPAS/or/detail?pn=UMK107AB7105KA-T&u=M; Height: 0.95mm; Mouser Part Number: 963-UMK107AB7105KA-T; Mouser Price/Stock: https://www.mouser.co.uk/ProductDetail/TAIYO-YUDEN/UMK107AB7105KA-T?qs=%252BAZVS4b%2FkgKLk%2FvFAZMoRQ%3D%3D; Arrow Part Number: UMK107AB7105KA-T; Arrow Price/Stock: https://www.arrow.com/en/products/umk107ab7105ka-t/taiyo-yuden?utm_currency=USD&region=nac
footprint CAPC1608X95N
pins: 1, 2

## VJ1206Y223KXBAC
designator C?
Capacitor; Manufacturer_Name: Vishay; Manufacturer_Part_Number: VJ1206Y223KXBAC; Datasheet Link: http://www.vishay.com/docs/45200/vjhirelseries.pdf; Height: 1.7mm; Mouser Part Number: 77-VJ1206Y223KXBAC; Mouser Price/Stock: https://www.mouser.co.uk/ProductDetail/Vishay-Vitramon/VJ1206Y223KXBAC?qs=DS7Z8uEdLNy5V8LiZ3YDHg%3D%3D
footprint CAPC3216X170N
pins: 1, 2

## WCR0805LF1001FPLT
designator R?
Resistor; Manufacturer_Name: TT Electronics; Manufacturer_Part_Number: WCR0805LF1001FPLT; Datasheet Link: https://g.componentsearchengine.com/Datasheets/1/WCR0805LF1001FPLT.pdf; Height: 0.65mm; Mouser Part Number: 66-WCR0805LF1001FPLT; Mouser Price/Stock: https://www.mouser.com/Search/Refine.aspx?Keyword=66-WCR0805LF1001FPLT
footprint RESC2013X65N (Footprint not found)
pins: 1, 2

## WSLP1206R0200FEB
designator R?
Resistor; Manufacturer_Name: Vishay; Manufacturer_Part_Number: WSLP1206R0200FEB; Datasheet Link: https://www.mouser.in/datasheet/2/427/wslhigh-1762363.pdf; Height: 0.889mm; Mouser Part Number: 71-WSLP1206-0.02-E3; Mouser Price/Stock: https://www.mouser.co.uk/ProductDetail/Vishay-Dale/WSLP1206R0200FEB?qs=aEuGZpxfbxVv9C1GEr8CXA%3D%3D
footprint RESC3216X89N
pins: 1, 2

## XQEGRN-H0-0000-P00000G01
designator LED?
LED; Manufacturer_Name: CREE LED; Manufacturer_Part_Number: XQEGRN-H0-0000-P00000G01; Description: High Power LEDs - Single Color XLamp XQ-E HI Green Light Emitting Diode; Datasheet Link: https://www.mouser.se/datasheet/2/723/XLamp_XQE_Plus-3358470.pdf; Height: 0.8mm; Mouser Part Number: 941-XQEGRNH0P0G01; Mouser Price/Stock: https://www.mouser.co.uk/ProductDetail/Cree-LED/XQEGRN-H0-0000-P00000G01?qs=ST9lo4GX8V1zC7Xk5SSARw%3D%3D
footprint XQEGRNH00000P00000G01
pins: 1 K, 2 A

## XQEROY-H0-0000-000000P01
designator LED?
LED; Manufacturer_Name: CREE LED; Manufacturer_Part_Number: XQEROY-H0-0000-000000P01; Description: High Power LEDs - Single Color; Datasheet Link: https://www.mouser.com/datasheet/2/90/ds_XQE-269120.pdf; Height: 0.9mm; Mouser Part Number: 941-XQEROYH00000P01; Mouser Price/Stock: https://www.mouser.com/Search/Refine.aspx?Keyword=941-XQEROYH00000P01
footprint XQEROYH00000000000P01
pins: 1 K, 2 A

## ZXMS6004FF-7
designator M?
footprint SOT95P240X100-3N (SOT23, 3-Leads, Body 2.90x2.40mm, Pitch 0.95mm, IPC Medium Density)
pins: 1 IN, 2 S, 3 D